# Altium schematic symbol library SCH - MCU - INFINEON XMC - INFINEON XMC1201Q040.SchLib: 1 symbol
Pins are listed as number, name and electrical type; pins without a type are passive.

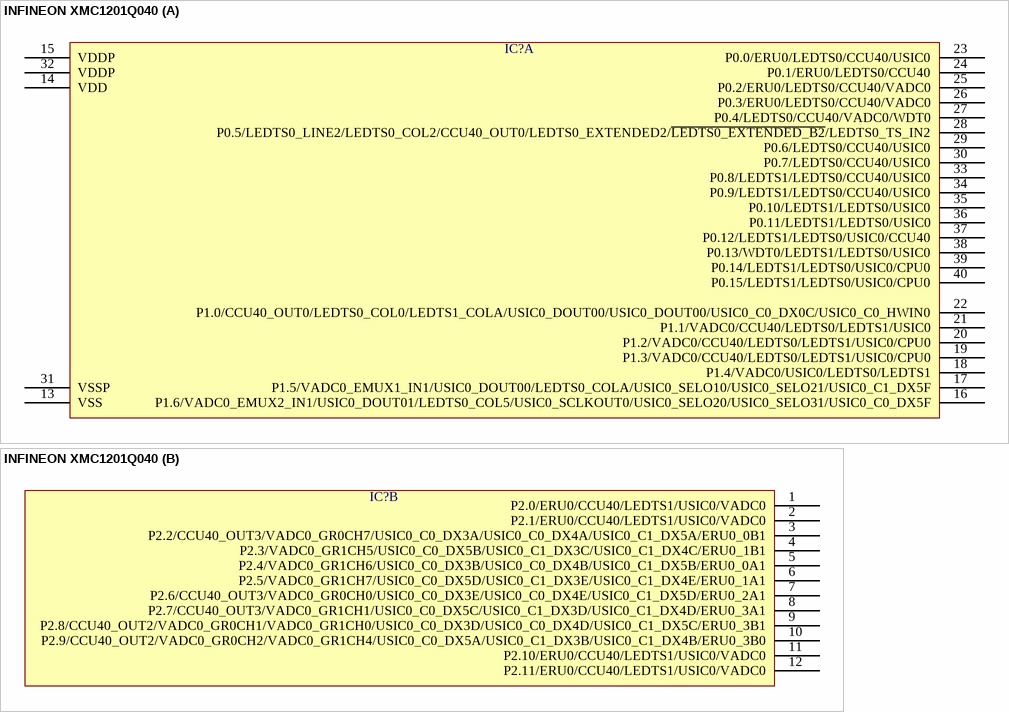
[diagram p0: symbol INFINEON XMC1201Q040]

## INFINEON XMC1201Q040
designator IC?  (value not drawn)
part A pins: 13 VSS, 14 VDD, 15 VDDP, 16 P1.6/VADC0_EMUX2_IN1/USIC0_DOUT01/LEDTS0_COL5/USIC0_SCLKOUT0/USIC0_SELO20/USIC0_SELO31/USIC0_C0_DX5F, 17 P1.5/VADC0_EMUX1_IN1/USIC0_DOUT00/LEDTS0_COLA/USIC0_SELO10/USIC0_SELO21/USIC0_C1_DX5F, 18 P1.4/VADC0/USIC0/LEDTS0/LEDTS1, 19 P1.3/VADC0/CCU40/LEDTS0/LEDTS1/USIC0/CPU0, 20 P1.2/VADC0/CCU40/LEDTS0/LEDTS1/USIC0/CPU0, 21 P1.1/VADC0/CCU40/LEDTS0/LEDTS1/USIC0, 22 P1.0/CCU40_OUT0/LEDTS0_COL0/LEDTS1_COLA/USIC0_DOUT00/USIC0_DOUT00/USIC0_C0_DX0C/USIC0_C0_HWIN0, 23 P0.0/ERU0/LEDTS0/CCU40/USIC0, 24 P0.1/ERU0/LEDTS0/CCU40, 25 P0.2/ERU0/LEDTS0/CCU40/VADC0, 26 P0.3/ERU0/LEDTS0/CCU40/VADC0, 27 P0.4/LEDTS0/CCU40/VADC0/WDT0, 28 P0.5/LEDTS0_LINE2/LEDTS0_COL2/CCU40_OUT0/LEDTS0_EXTENDED2/~{LEDTS0_EXTENDED_B2}/LEDTS0_TS_IN2, 29 P0.6/LEDTS0/CCU40/USIC0, 30 P0.7/LEDTS0/CCU40/USIC0, 31 VSSP, 32 VDDP, 33 P0.8/LEDTS1/LEDTS0/CCU40/USIC0, 34 P0.9/LEDTS1/LEDTS0/CCU40/USIC0, 35 P0.10/LEDTS1/LEDTS0/USIC0, 36 P0.11/LEDTS1/LEDTS0/USIC0, 37 P0.12/LEDTS1/LEDTS0/USIC0/CCU40, 38 P0.13/WDT0/LEDTS1/LEDTS0/USIC0, 39 P0.14/LEDTS1/LEDTS0/USIC0/CPU0, 40 P0.15/LEDTS1/LEDTS0/USIC0/CPU0
part B pins: 1 P2.0/ERU0/CCU40/LEDTS1/USIC0/VADC0, 2 P2.1/ERU0/CCU40/LEDTS1/USIC0/VADC0, 3 P2.2/CCU40_OUT3/VADC0_GR0CH7/USIC0_C0_DX3A/USIC0_C0_DX4A/USIC0_C1_DX5A/ERU0_0B1, 4 P2.3/VADC0_GR1CH5/USIC0_C0_DX5B/USIC0_C1_DX3C/USIC0_C1_DX4C/ERU0_1B1, 5 P2.4/VADC0_GR1CH6/USIC0_C0_DX3B/USIC0_C0_DX4B/USIC0_C1_DX5B/ERU0_0A1, 6 P2.5/VADC0_GR1CH7/USIC0_C0_DX5D/USIC0_C1_DX3E/USIC0_C1_DX4E/ERU0_1A1, 7 P2.6/CCU40_OUT3/VADC0_GR0CH0/USIC0_C0_DX3E/USIC0_C0_DX4E/USIC0_C1_DX5D/ERU0_2A1, 8 P2.7/CCU40_OUT3/VADC0_GR1CH1/USIC0_C0_DX5C/USIC0_C1_DX3D/USIC0_C1_DX4D/ERU0_3A1, 9 P2.8/CCU40_OUT2/VADC0_GR0CH1/VADC0_GR1CH0/USIC0_C0_DX3D/USIC0_C0_DX4D/USIC0_C1_DX5C/ERU0_3B1, 10 P2.9/CCU40_OUT2/VADC0_GR0CH2/VADC0_GR1CH4/USIC0_C0_DX5A/USIC0_C1_DX3B/USIC0_C1_DX4B/ERU0_3B0, 11 P2.10/ERU0/CCU40/LEDTS1/USIC0/VADC0, 12 P2.11/ERU0/CCU40/LEDTS1/USIC0/VADC0